# Altium schematic symbol library AMC1350DWVR.SchLib: 1 symbol
Pins are listed as number, name and electrical type; pins without a type are passive.

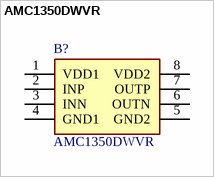
[diagram p0: symbol AMC1350DWVR]

## AMC1350DWVR
designator B?
SOIC; Manufacturer_Name: Texas Instruments; Geometry.Height: 2.8mm; Mouser Part Number: 595-AMC1350DWVR; Mouser Price/Stock: https://www.mouser.co.uk/ProductDetail/Texas-Instruments/AMC1350DWVR?qs=Rp5uXu7WBW%2FANH2mDTT%252Bkg%3D%3D; Manufacturer_Part_Number: AMC1350DWVR; Datasheet Link: https://www.ti.com/lit/ds/symlink/amc1350.pdf?ts=1632455585396&ref_url=https%253A%252F%252Fwww.ti.com%252Fstore%252Fti%252Fen%252Fp%252Fproduct%252F%253Fp%253DPAMC1350DWVR
footprint SOIC127P1150X280-8N
pins: 1 VDD1, 2 INP, 3 INN, 4 GND1, 5 GND2, 6 OUTN, 7 OUTP, 8 VDD2